# Altium schematic symbol library Schlib1.SchLib: 1 symbol
Pins are listed as number, name and electrical type; pins without a type are passive.

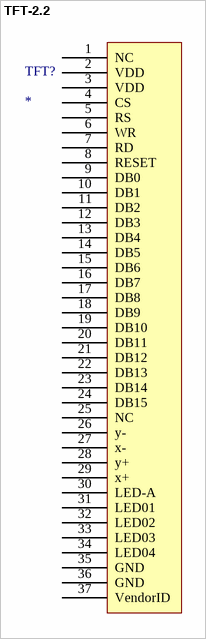
[diagram p0: symbol TFT-2.2]

## TFT-2.2
designator TFT?
pins: 1 NC, 2 VDD, 3 VDD, 4 CS, 5 RS, 6 WR, 7 RD, 8 RESET, 9 DB0, 10 DB1, 11 DB2, 12 DB3, 13 DB4, 14 DB5, 15 DB6, 16 DB7, 17 DB8, 18 DB9, 19 DB10, 20 DB11, 21 DB12, 22 DB13, 23 DB14, 24 DB15, 25 NC, 26 y-, 27 x-, 28 y+, 29 x+, 30 LED-A, 31 LED01, 32 LED02, 33 LED03, 34 LED04, 35 GND, 36 GND, 37 VendorID